# Altium footprint library Connectors.PcbLib: 76 footprints (part 3 of 5)
Each footprint in its own frame and in the unit in brackets; x right, y up, seen from the top. Pads: shape width x height; smd on the part's side, far side on the other; paste and mask are expansions set on the pad; w line width, h text height; cw(c..) or ccw(c..) is an arc to the next point about the centre after c.
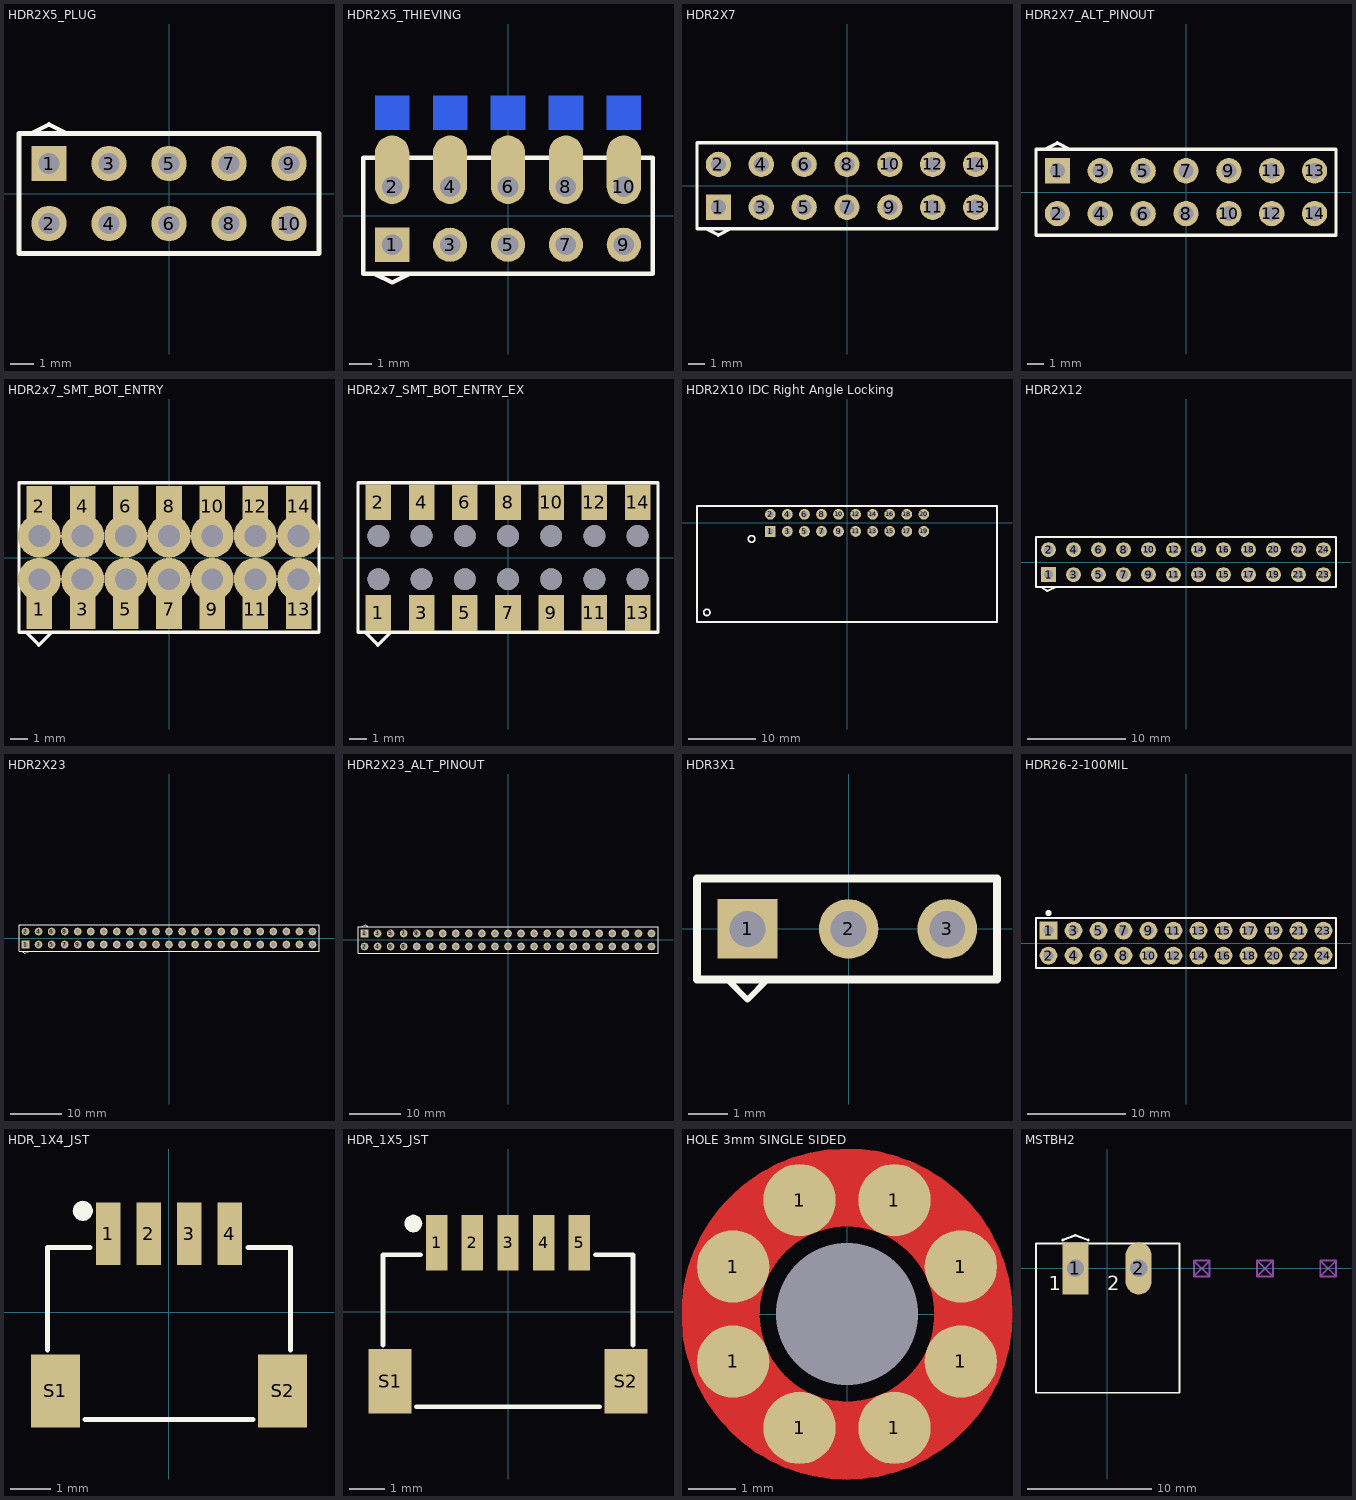
[diagram p2: the footprints below, top view; thin cyan lines are the x and y axes]

## HDR2X5_PLUG [mm] "Connector; Header; 5x2 Position"
pads (10):
  rect 1.5x1.5 hole 0.9: 1(-5.08,1.27)
  round 1.5 hole 0.9: 2(-5.08,-1.27) 3(-2.54,1.27) 4(-2.54,-1.27) 5(0,1.27) 6(0,-1.27) 7(2.54,1.27) 8(2.54,-1.27) 9(5.08,1.27) 10(5.08,-1.27)
Top Overlay:
  lines w0.2: -6.35,-2.54 6.35,-2.54 6.35,2.54 -6.35,2.54 -6.35,-2.54
  lines w0.203: -5.842,2.54 -5.08,2.921 -4.318,2.54
3D body: height 6.35, standoff 0, extent -6.45,-2.64 6.45,2.64

## HDR2X5_THIEVING [mm] "Connector; Header; 5x2 Position"
pads (25):
  rect 1.5x1.5 hole 0.9 mask+0.051: 1(-5.08,-1.27)
  oval 1.5x3 hole 0.9 copper offset 0,0.75 mask-0.914: 2(-5.08,1.27) 4(-2.54,1.27) 6(0,1.27) 8(2.54,1.27) 10(5.08,1.27)
  round 1.5 hole 0.9 mask+0.051: 3(-2.54,-1.27) 5(0,-1.27) 7(2.54,-1.27) 9(5.08,-1.27)
  round 1.602 on Top Solder: ""(-5.08,1.27) ""(-2.54,1.27) ""(0,1.27) ""(2.54,1.27) ""(5.08,1.27)
  round 1.602 on Bottom Solder: ""(-5.08,1.27) ""(-2.54,1.27) ""(0,1.27) ""(2.54,1.27) ""(5.08,1.27)
  rect 1.5x1.5 smd far side paste-0.762: ""(-5.08,4.521) ""(-2.54,4.521) ""(0,4.521) ""(2.54,4.521) ""(5.08,4.521)
Top Overlay:
  lines w0.2: -6.35,-2.54 -6.35,2.54 6.35,2.54 6.35,-2.54 -6.35,-2.54
  lines w0.203: -5.842,-2.54 -5.08,-2.921 -4.318,-2.54
Bottom Solder:
  region: 5.08,2.388 4.521,1.829 5.639,1.829
  region: 2.54,2.388 1.981,1.829 3.099,1.829
  region: 0,2.388 -0.559,1.829 0.559,1.829
  region: -2.54,2.388 -3.099,1.829 -1.981,1.829
  region: 5.08,3.531 5.08,2.286 4.318,1.524
  region: 2.54,3.531 2.54,2.286 1.778,1.524
  region: 0,3.531 0,2.286 -0.762,1.524
  region: -2.54,3.531 -2.54,2.286 -3.302,1.524
  region: 5.08,3.531 5.08,2.286 5.842,1.524
  region: 2.54,3.531 2.54,2.286 3.302,1.524
  region: 0,3.531 0,2.286 0.762,1.524
  region: -2.54,3.531 -2.54,2.286 -1.778,1.524
  region: -5.08,2.388 -5.639,1.829 -4.521,1.829
  region: -5.08,3.531 -5.08,2.286 -5.842,1.524
  region: -5.08,3.531 -5.08,2.286 -4.318,1.524
3D body: height 6.35, standoff 0, extent -6.45,-2.64 6.45,2.64

## HDR2X7 [mm] "Connector; Header; 5x2 Position"
pads (14):
  rect 1.5x1.5 hole 0.9: 1(-7.62,-1.27)
  round 1.5 hole 0.9: 2(-7.62,1.27) 3(-5.08,-1.27) 4(-5.08,1.27) 5(-2.54,-1.27) 6(-2.54,1.27) 7(0,-1.27) 8(0,1.27) 9(2.54,-1.27) 10(2.54,1.27) 11(5.08,-1.27) 12(5.08,1.27) 13(7.62,-1.27) 14(7.62,1.27)
Top Overlay:
  lines w0.2: -8.89,-2.54 8.89,-2.54 8.89,2.54 -8.89,2.54 -8.89,-2.54
  lines w0.203: -8.382,-2.54 -7.62,-2.921 -6.858,-2.54
3D body: height 6.35, standoff 0, extent -8.99,-2.64 8.992,2.64

## HDR2X7_ALT_PINOUT [mm] "Connector; Header; 5x2 Position"
pads (14):
  rect 1.5x1.5 hole 0.9: 1(-7.62,1.27)
  round 1.5 hole 0.9: 2(-7.62,-1.27) 3(-5.08,1.27) 4(-5.08,-1.27) 5(-2.54,1.27) 6(-2.54,-1.27) 7(0,1.27) 8(0,-1.27) 9(2.54,1.27) 10(2.54,-1.27) 11(5.08,1.27) 12(5.08,-1.27) 13(7.62,1.27) 14(7.62,-1.27)
Top Overlay:
  lines w0.2: -8.89,-2.54 8.89,-2.54 8.89,2.54 -8.89,2.54 -8.89,-2.54
  lines w0.203: -8.382,2.54 -7.62,2.921 -6.858,2.54
3D body: height 6.35, standoff 0, extent -8.99,-2.64 8.992,2.64

## HDR2x7_SMT_BOT_ENTRY [mm]
height 6.2
pads (28):
  rect 1.5x2.33 smd: 1(-7.62,-3.035) 2(-7.62,3.035) 3(-5.08,-3.035) 4(-5.08,3.035) 5(-2.54,-3.035) 6(-2.54,3.035) 7(0,-3.035) 8(0,3.035) 9(2.54,-3.035) 10(2.54,3.035) 11(5.08,-3.035) 12(5.08,3.035) 13(7.62,-3.035) 14(7.62,3.035)
  round 0 hole 1.28 unplated: 1(-7.62,-1.27) 2(-7.62,1.27) 3(-5.08,-1.27) 4(-5.08,1.27) 5(-2.54,-1.27) 6(-2.54,1.27) 7(0,-1.27) 8(0,1.27) 9(2.54,-1.27) 10(2.54,1.27) 11(5.08,-1.27) 12(5.08,1.27) 13(7.62,-1.27) 14(7.62,1.27)
Top Overlay:
  lines w0.203: -8.4,-4.4 -7.7,-5.1 -7.65,-5.15 -6.9,-4.4 ; -8.82,-4.4 8.82,-4.4 8.82,4.4 -8.82,4.4 -8.82,-4.4
3D body "c-969973-7-e-3d.stp": height 6.2, standoff 0, extent -8.79,-3.825 8.79,3.825

## HDR2x7_SMT_BOT_ENTRY_EX [mm]
height 6.2
pads (28):
  rect 1.5x2.1 smd: 1(-7.62,-3.25) 2(-7.62,3.25) 3(-5.08,-3.25) 4(-5.08,3.25) 5(-2.54,-3.25) 6(-2.54,3.25) 7(0,-3.25) 8(0,3.25) 9(2.54,-3.25) 10(2.54,3.25) 11(5.08,-3.25) 12(5.08,3.25) 13(7.62,-3.25) 14(7.62,3.25)
  round 1.28 hole 1.28 unplated: ""(-7.62,-1.27) ""(-7.62,1.27) ""(-5.08,-1.27) ""(-5.08,1.27) ""(-2.54,-1.27) ""(-2.54,1.27) ""(0,-1.27) ""(0,1.27) ""(2.54,-1.27) ""(2.54,1.27) ""(5.08,-1.27) ""(5.08,1.27) ""(7.62,-1.27) ""(7.62,1.27)
Top Overlay:
  lines w0.203: -8.4,-4.4 -7.7,-5.1 -7.65,-5.15 -6.9,-4.4 ; -8.82,-4.4 -8.82,4.4 8.82,4.4 8.82,-4.4 -8.82,-4.4
3D body "c-969973-7-e-3d.stp": height 6.2, standoff 0, extent -8.79,-3.825 8.79,3.825

## HDR2X10 IDC Right Angle Locking [mil] "Connector; Header; 2x10 Position Right Angle Locking"
pads (20):
  rect 63x63 hole 35.43: 1(-450,-50)
  round 63 hole 35.43: 2(-450,50) 3(-350,-50) 4(-350,50) 5(-250,-50) 6(-250,50) 7(-150,-50) 8(-150,50) 9(-50,-50) 10(-50,50) 11(50,-50) 12(50,50) 13(150,-50) 14(150,50) 15(250,-50) 16(250,50) 17(350,-50) 18(350,50) 19(450,-50) 20(450,50)
Top Overlay:
  circle w10: c-822,-525 r18.68
  circle w10: c-560,-94 r19.24
  lines w10: -879.99,-580.99 879,-580.99 879,99 -879.99,99 -879.99,-580.99
3D body "3428-5003.stp": height 340, standoff -155, extent -879.99,-580.99 880.01,99

## HDR2X12 [mm] "Connector; Header; 12x2 Position"
pads (24):
  rect 1.5x1.5 hole 0.9: 1(-13.97,-1.27)
  round 1.5 hole 0.9: 2(-13.97,1.27) 3(-11.43,-1.27) 4(-11.43,1.27) 5(-8.89,-1.27) 6(-8.89,1.27) 7(-6.35,-1.27) 8(-6.35,1.27) 9(-3.81,-1.27) 10(-3.81,1.27) 11(-1.27,-1.27) 12(-1.27,1.27) 13(1.27,-1.27) 14(1.27,1.27) 15(3.81,-1.27) 16(3.81,1.27) 17(6.35,-1.27) 18(6.35,1.27) 19(8.89,-1.27) 20(8.89,1.27) 21(11.43,-1.27) 22(11.43,1.27) 23(13.97,-1.27) 24(13.97,1.27)
Top Overlay:
  lines w0.2: -15.24,-2.54 15.24,-2.54 15.24,2.54 -15.24,2.54 -15.24,-2.54
  lines w0.203: -14.732,-2.54 -14.097,-2.921 -13.208,-2.54
3D body: height 10, standoff 0, extent -15.34,-2.64 15.34,2.64

## HDR2X23 [mm] "Connector; Header; 12x2 Position"
pads (46):
  rect 1.5x1.5 hole 0.9: 1(-27.94,-1.27)
  round 1.5 hole 0.9: 2(-27.94,1.27) 3(-25.4,-1.27) 4(-25.4,1.27) 5(-22.86,-1.27) 6(-22.86,1.27) 7(-20.32,-1.27) 8(-20.32,1.27) 9(-17.78,-1.27) 10(-17.78,1.27) 11(-15.24,-1.27) 12(-15.24,1.27) 13(-12.7,-1.27) 14(-12.7,1.27) 15(-10.16,-1.27) 16(-10.16,1.27) 17(-7.62,-1.27) 18(-7.62,1.27) 19(-5.08,-1.27) 20(-5.08,1.27) 21(-2.54,-1.27) 22(-2.54,1.27) 23(0,-1.27) 24(0,1.27) 25(2.54,-1.27) 26(2.54,1.27) 27(5.08,-1.27) 28(5.08,1.27) 29(7.62,-1.27) 30(7.62,1.27) 31(10.16,-1.27) 32(10.16,1.27) 33(12.7,-1.27) 34(12.7,1.27) 35(15.24,-1.27) 36(15.24,1.27) 37(17.78,-1.27) 38(17.78,1.27) 39(20.32,-1.27) 40(20.32,1.27) 41(22.86,-1.27) 42(22.86,1.27) 43(25.4,-1.27) 44(25.4,1.27) 45(27.94,-1.27) 46(27.94,1.27)
Top Overlay:
  lines w0.2: -29.21,-2.54 -29.21,2.54 29.21,2.54 29.21,-2.54 -29.21,-2.54
  lines w0.203: -28.702,-2.54 -28.067,-2.921 -27.178,-2.54
3D body: height 10, standoff 0, extent -29.31,-2.64 29.312,2.64

## HDR2X23_ALT_PINOUT [mm] "Connector; Header; 12x2 Position"
pads (46):
  rect 1.5x1.5 hole 0.9: 1(-27.94,1.27)
  round 1.5 hole 0.9: 2(-27.94,-1.27) 3(-25.4,1.27) 4(-25.4,-1.27) 5(-22.86,1.27) 6(-22.86,-1.27) 7(-20.32,1.27) 8(-20.32,-1.27) 9(-17.78,1.27) 10(-17.78,-1.27) 11(-15.24,1.27) 12(-15.24,-1.27) 13(-12.7,1.27) 14(-12.7,-1.27) 15(-10.16,1.27) 16(-10.16,-1.27) 17(-7.62,1.27) 18(-7.62,-1.27) 19(-5.08,1.27) 20(-5.08,-1.27) 21(-2.54,1.27) 22(-2.54,-1.27) 23(0,1.27) 24(0,-1.27) 25(2.54,1.27) 26(2.54,-1.27) 27(5.08,1.27) 28(5.08,-1.27) 29(7.62,1.27) 30(7.62,-1.27) 31(10.16,1.27) 32(10.16,-1.27) 33(12.7,1.27) 34(12.7,-1.27) 35(15.24,1.27) 36(15.24,-1.27) 37(17.78,1.27) 38(17.78,-1.27) 39(20.32,1.27) 40(20.32,-1.27) 41(22.86,1.27) 42(22.86,-1.27) 43(25.4,1.27) 44(25.4,-1.27) 45(27.94,1.27) 46(27.94,-1.27)
Top Overlay:
  lines w0.2: -29.21,-2.54 29.21,-2.54 29.21,2.54 -29.21,2.54 -29.21,-2.54
  lines w0.203: -28.702,2.54 -27.813,2.921 -27.178,2.54
3D body: height 10, standoff 0, extent -29.31,-2.64 29.312,2.64

## HDR3X1 [mm] "Connector; Header; 2X1 Position"
height 0.6
pads (3):
  rect 1.5x1.5 hole 0.9: 1(-2.54,0)
  round 1.5 hole 0.9: 2(0,0) 3(2.48,0)
Top Overlay:
  lines w0.152: -3.048,-1.27 -2.54,-1.778 -2.032,-1.27
  lines w0.2: -3.81,-1.27 3.73,-1.27 3.73,1.27 -3.81,1.27 -3.81,-1.27
3D body: height 6.35, standoff 0, extent -3.81,-1.27 3.73,1.27

## HDR26-2-100MIL [mm]
height 8.5
pads (25):
  rect 1.8x1.8 hole 1.02: 1(-13.97,1.27)
  round 1.8 hole 1.02: 2(-13.97,-1.27) 3(-11.43,1.27) 4(-11.43,-1.27) 5(-8.89,1.27) 6(-8.89,-1.27) 7(-6.35,1.27) 8(-6.35,-1.27) 9(-3.81,1.27) 10(-3.81,-1.27) 11(-1.27,1.27) 12(-1.27,-1.27) 13(1.27,1.27) 14(1.27,-1.27) 15(3.81,1.27) 16(3.81,-1.27) 17(6.35,1.27) 18(6.35,-1.27) 19(8.89,1.27) 20(8.89,-1.27) 21(11.43,1.27) 22(11.43,-1.27) 23(13.97,1.27) 24(13.97,-1.27)
  round 0.635 on Top Overlay: ""(-13.97,3.048)
Top Overlay:
  lines w0.203: -15.24,-2.54 15.24,-2.54 15.24,2.54 -15.24,2.54 -15.24,-2.54
3D body: height 8.5, standoff 0, extent -15.342,-2.642 15.342,2.642

## HDR_1X4_JST [mm]
pads (7):
  rect 0.6x1.55 smd mask+0.051: 1(-1.5,1.938) 2(-0.5,1.938) 3(0.5,1.938) 4(1.5,1.938)
  rect 1.2x1.8 smd mask+0.051: S1(-2.8,-1.937) S2(2.8,-1.937)
  round 0.5 on Top Overlay mask+0.051: ""(-2.125,2.5)
Top Overlay:
  lines w0.127: -3,-0.925 -3,1.6 -1.95,1.6 ; -2.075,-2.65 2.075,-2.65 ; 1.95,1.6 3,1.6 3,-0.925
3D body "SM04B-SRSS-TB.STEP": height 2.96, standoff 0, extent -3,-2.65 3,2.3

## HDR_1X5_JST [mm]
pads (8):
  rect 0.6x1.55 smd mask+0.051: 1(-2,1.938) 2(-1,1.938) 3(0,1.938) 4(1,1.938) 5(2,1.938)
  rect 1.2x1.8 smd mask+0.051: S1(-3.3,-1.937) S2(3.3,-1.937)
  round 0.5 on Top Overlay mask+0.051: ""(-2.65,2.475)
Top Overlay:
  lines w0.127: -3.5,-0.925 -3.5,1.6 -2.45,1.6 ; -2.575,-2.65 2.575,-2.65 ; 2.45,1.6 3.5,1.6 3.5,-0.925
3D body "SM05B-SRSS-TB.STEP": height 2.96, standoff 0, extent -3.5,-2.65 3.5,2.3

## HOLE 3mm SINGLE SIDED [mm]
pads (9):
  round 1.524 smd paste-0.127 mask+0: 1(-2.4,-1) 1(-2.4,1) 1(-1,-2.4) 1(-1,2.4) 1(1,-2.4) 1(1,2.4) 1(2.4,-1) 1(2.4,1)
  round 0 hole 3 unplated paste+0 mask-2.845: ""(0,0)
Top Layer:
  lines w1.65: -1.886,-1.886 ccw(c0,0) 0.505,-2.619 ccw(c0,0) 2.667,0 ccw(c0,0) -1.886,-1.886
3D body: height 0, standoff 0, extent -2.666,-2.666 2.666,2.666

## MSTBH2 [mil] "Pluggable terminal block-5.08mm pitch - Horizontal"
pads (2):
  rect 82.5x165 hole 55: 1(-100,0)
  oval 82.5x165 hole 55: 2(100,0)
Top Overlay:
  lines w6: -225,-393.7 -225,78.74 230,78.74 230,-393.7 -225,-393.7
  lines w8: -140,90 -100,105 -60,90
  text "1" at -185,-85 h77.5
  text "2" at 0,-85 h77.5
Mechanical 8:
  lines w6: -125,-25 -125,25 ; -125,-25 -75,-25 ; -125,-25 -75,25 ; -125,25 -75,25 ; -125,25 -75,-25 ; -75,-25 -75,25 ; 75,-25 125,-25 ; 75,-25 75,25 ; 75,-25 125,25 ; 75,25 125,25 ; 75,25 125,-25 ; 125,-25 125,25 ; 275,-25 275,25 ; 275,-25 325,-25 ; 275,-25 325,25 ; 275,25 325,25 ; 275,25 325,-25 ; 325,-25 325,25 ; 475,-25 475,25 ; 475,-25 525,25 ; 475,-25 525,-25 ; 475,25 525,25 ; 475,25 525,-25 ; 525,-25 525,25 ; 525,-25 525,25 ; 675,-25 725,25 ; 675,-25 725,-25 ; 675,-25 675,25 ; 675,25 725,-25 ; 675,25 725,25 ; 725,-25 725,25
3D body: height 326.77, standoff 0, extent -228,-396.7 230,81.74